# Altium schematic symbol library Discrete_Diodes_Schottky_GOST.SchLib: 2 symbols
Pins are listed as number, name and electrical type; pins without a type are passive.

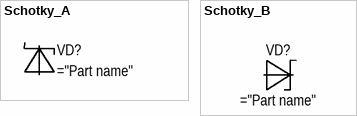
[diagram p0: symbols Schotky_A to Schotky_B]

## Schotky_A
designator VD?
pins: 1, 2

## Schotky_B
designator VD?
pins: 1, 2